# Altium integrated library LEDs-TMRW_rev15a.intlib: 8 symbols
Pins are listed as number, name and electrical type; pins without a type are passive.

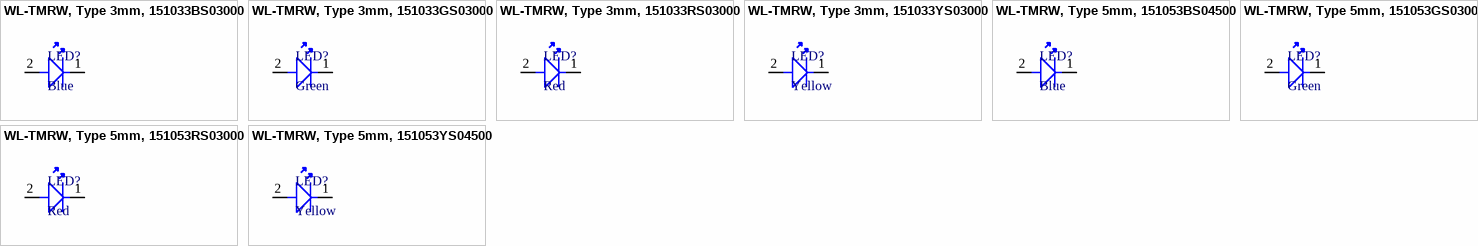
[diagram p0: symbols WL-TMRW, Type 3mm, 151033BS03000 to WL-TMRW, Type 5mm, 151053YS04500]

## WL-TMRW, Type 3mm, 151033BS03000
designator LED?, comment Blue
THT LED round mono-color waterclear, WL-TMRW , Blue; PartNo: 151033BS03000; Manufacturer: Würth Elektronik eiSos GmbH; ComponentLink1Description: Manufacturer; ComponentLink1URL: http://www.we-online.de; Created by: Christin Otto; Created Date: Oct-2014; ComponentLink2Description: Datasheet; ComponentLink2URL: http://katalog.we-online.de/pbs/datasheet/7448042001.pdfhttp://katalog.we-online.de/pbs/datasheet/7448042001.pdfhttp://katalog.we-online.de/pbs/datasheet/7448042001.pdfhttp://katalog.we-online.de/pbs/datasheet/151033BS03000.pdf; Emitting color: Blue
footprint Type 3mm (THT-LED-3mm, 2pin- Body 4.15mm(max))
pins: 1 K, 2 A

## WL-TMRW, Type 3mm, 151033GS03000
designator LED?, comment Green
THT LED round mono-color waterclear, THT WL-TMRW ,Green; PartNo: 151033GS03000; Manufacturer: Würth Elektronik eiSos GmbH; ComponentLink1Description: Manufacturer; ComponentLink1URL: http://www.we-online.de; Created by: Christin Otto; Created Date: Oct-2014; ComponentLink2Description: Datasheet; ComponentLink2URL: http://katalog.we-online.de/pbs/datasheet/7448042001.pdfhttp://katalog.we-online.de/pbs/datasheet/7448042001.pdfhttp://katalog.we-online.de/pbs/datasheet/7448042001.pdfhttp://katalog.we-online.de/pbs/datasheet/151033GS03000.pdf; Emitting color: Green
footprint Type 3mm (THT-LED-3mm, 2pin- Body 4.15mm(max))
pins: 1 K, 2 A

## WL-TMRW, Type 3mm, 151033RS03000
designator LED?, comment Red
THT LED round mono-color waterclear, WL-TMRW, Red; PartNo: 151033RS03000; Manufacturer: Würth Elektronik eiSos GmbH; ComponentLink1Description: Manufacturer; ComponentLink1URL: http://www.we-online.de; Created by: Christin Otto; Created Date: Oct-2014; ComponentLink2Description: Datasheet; ComponentLink2URL: http://katalog.we-online.de/pbs/datasheet/7448042001.pdfhttp://katalog.we-online.de/pbs/datasheet/7448042001.pdfhttp://katalog.we-online.de/pbs/datasheet/7448042001.pdfhttp://katalog.we-online.de/pbs/datasheet/151033RS03000.pdf; Emitting color: Red
footprint Type 3mm (THT-LED-3mm, 2pin- Body 4.15mm(max))
pins: 1 K, 2 A

## WL-TMRW, Type 3mm, 151033YS03000
designator LED?, comment Yellow
THT LED round mono-color waterclear, WL-TMRW, Yellow; PartNo: 151033YS03000; Manufacturer: Würth Elektronik eiSos GmbH; ComponentLink1Description: Manufacturer; ComponentLink1URL: http://www.we-online.de; Created by: Christin Otto; Created Date: Oct-2014; ComponentLink2Description: Datasheet; ComponentLink2URL: http://katalog.we-online.de/pbs/datasheet/7448042001.pdfhttp://katalog.we-online.de/pbs/datasheet/7448042001.pdfhttp://katalog.we-online.de/pbs/datasheet/7448042001.pdfhttp://katalog.we-online.de/pbs/datasheet/151033YS03000.pdf; Emitting color: Yellow
footprint Type 3mm (THT-LED-3mm, 2pin- Body 4.15mm(max))
pins: 1 K, 2 A

## WL-TMRW, Type 5mm, 151053BS04500
designator LED?, comment Blue
THT LED round mono-color waterclear, WL-TMRW ,Blue; PartNo: 151053BS04500; Manufacturer: Würth Elektronik eiSos GmbH; ComponentLink1Description: Manufacturer; ComponentLink1URL: http://www.we-online.de; Created by: Christin Otto; Created Date: Oct-2014; ComponentLink2Description: Datasheet; ComponentLink2URL: http://katalog.we-online.de/pbs/datasheet/7448042001.pdfhttp://katalog.we-online.de/pbs/datasheet/7448042001.pdfhttp://katalog.we-online.de/pbs/datasheet/7448042001.pdfhttp://katalog.we-online.de/pbs/datasheet/151053BS04500.pdf; Emitting color: Blue
footprint Type 5mm (THT, LED-5mm, 2pin- Body 5.8mm)
pins: 1 K, 2 A

## WL-TMRW, Type 5mm, 151053GS03000
designator LED?, comment Green
THT LED round mono-color waterclear, WL-TMRW, Green; PartNo: 151053GS03000; Manufacturer: Würth Elektronik eiSos GmbH; ComponentLink1Description: Manufacturer; ComponentLink1URL: http://www.we-online.de; Created by: Christin Otto; Created Date: Oct-2014; ComponentLink2Description: Datasheet; ComponentLink2URL: http://katalog.we-online.de/pbs/datasheet/7448042001.pdfhttp://katalog.we-online.de/pbs/datasheet/7448042001.pdfhttp://katalog.we-online.de/pbs/datasheet/7448042001.pdfhttp://katalog.we-online.de/pbs/datasheet/151053GS03000.pdf; Emitting color: Green
footprint Type 5mm (THT, LED-5mm, 2pin- Body 5.8mm)
pins: 1 K, 2 A

## WL-TMRW, Type 5mm, 151053RS03000
designator LED?, comment Red
THT LED round mono-color waterclear,  WL-TMRW ,Red; PartNo: 151053RS03000; Manufacturer: Würth Elektronik eiSos GmbH; ComponentLink1Description: Manufacturer; ComponentLink1URL: http://www.we-online.de; Created by: Christin Otto; Created Date: Oct-2014; ComponentLink2Description: Datasheet; ComponentLink2URL: http://katalog.we-online.de/pbs/datasheet/7448042001.pdfhttp://katalog.we-online.de/pbs/datasheet/7448042001.pdfhttp://katalog.we-online.de/pbs/datasheet/7448042001.pdfhttp://katalog.we-online.de/pbs/datasheet/151053RS03000.pdf; Emitting color: Red
footprint Type 5mm (THT, LED-5mm, 2pin- Body 5.8mm)
pins: 1 K, 2 A

## WL-TMRW, Type 5mm, 151053YS04500
designator LED?, comment Yellow
THT LED round mono-color waterclear, WL-TMRW, Yellow; PartNo: 151053YS04500; Manufacturer: Würth Elektronik eiSos GmbH; ComponentLink1Description: Manufacturer; ComponentLink1URL: http://www.we-online.de; Created by: Christin Otto; Created Date: Oct-2014; ComponentLink2Description: Datasheet; ComponentLink2URL: http://katalog.we-online.de/pbs/datasheet/7448042001.pdfhttp://katalog.we-online.de/pbs/datasheet/7448042001.pdfhttp://katalog.we-online.de/pbs/datasheet/7448042001.pdfhttp://katalog.we-online.de/pbs/datasheet/151053YS04500.pdf; Emitting color: Yellow
footprint Type 5mm (THT, LED-5mm, 2pin- Body 5.8mm)
pins: 1 K, 2 A